# Altium integrated library Silicon Labs Energy Micro EFM32.IntLib: 240 symbols (part 8 of 34)
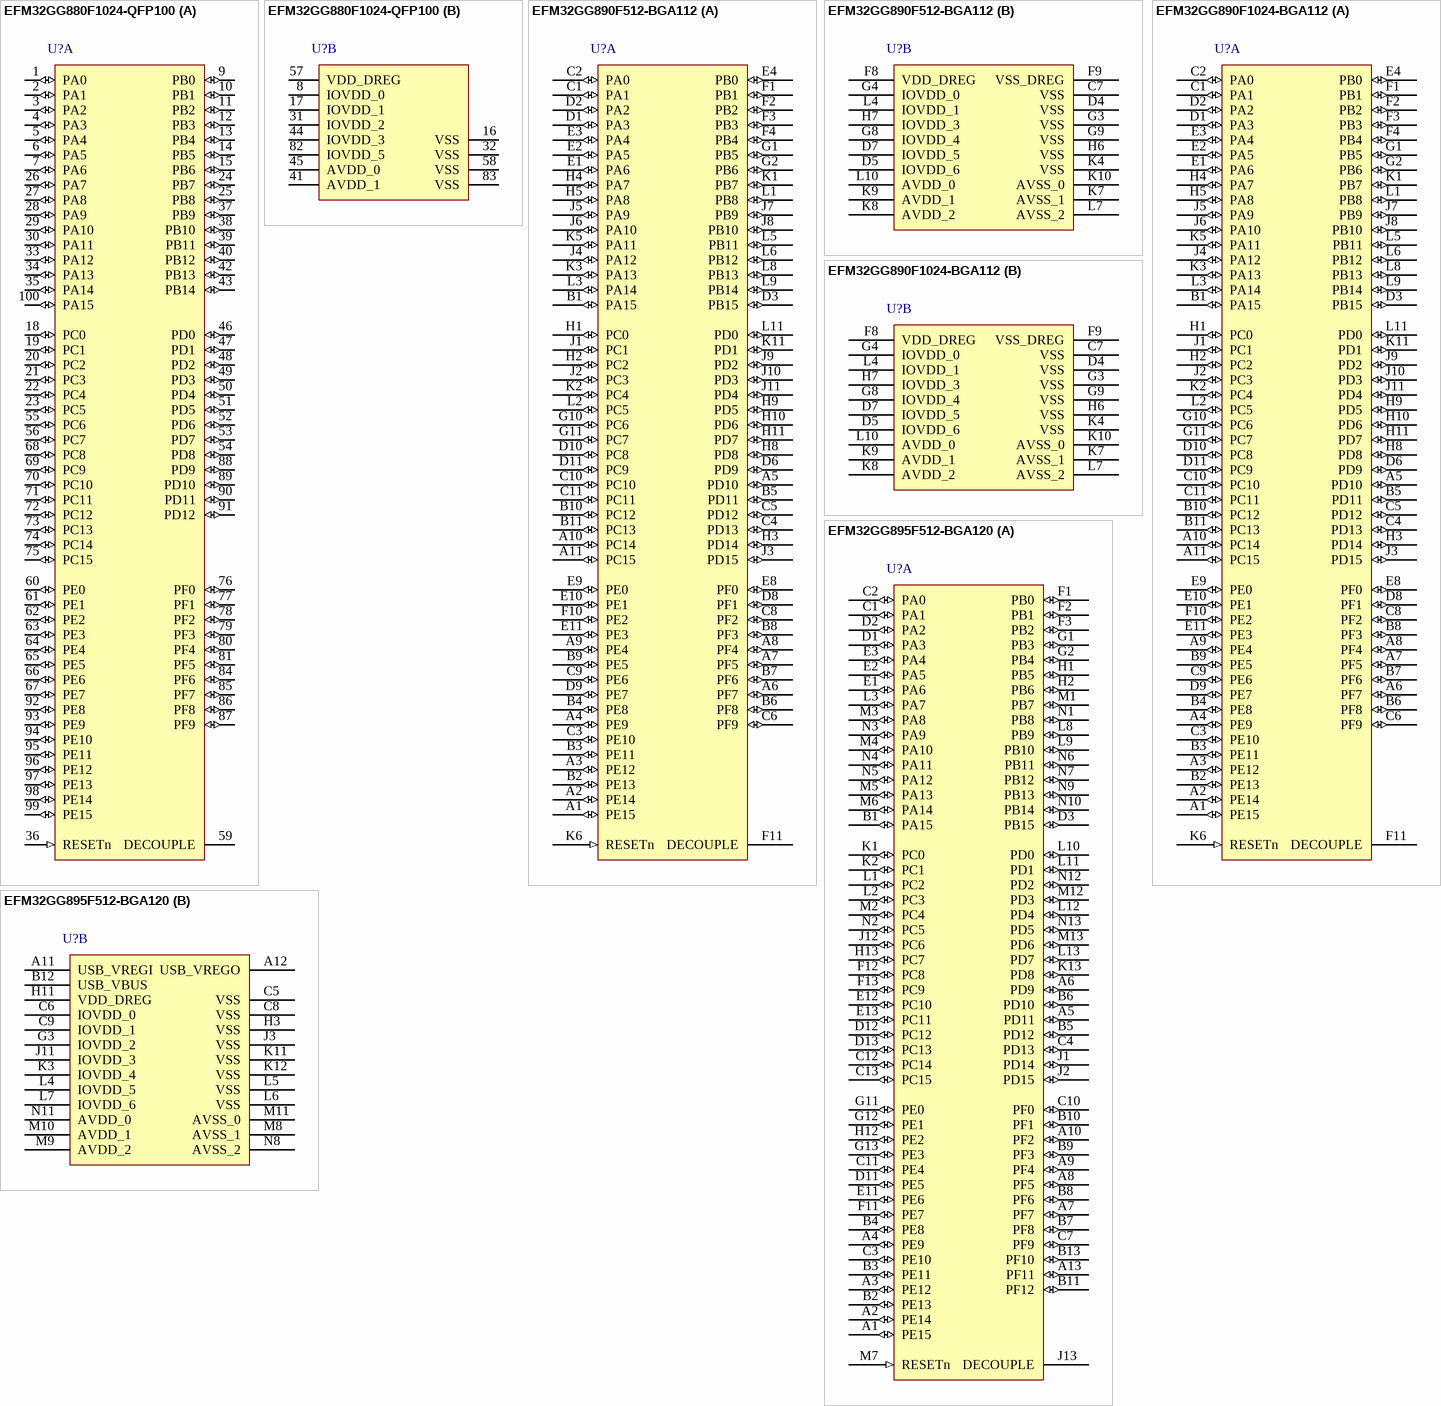
[diagram p45: symbols EFM32GG880F1024-QFP100 to EFM32GG895F512-BGA120]

## EFM32GG890F512-BGA112
designator U?
EFM32 Giant Gecko, M3 ARM Cortex CPU, 512 KB Flash, 128 KB RAM, 1.85 - 3.8 V Supply, 48 MHz Max Speed, -40 to 85 degC, 112-Pin BGA, RoHS Compliant; Generic Part Number: EFM32GG890; PartNumber: EFM32GG890F512-BGA112; Flash (KB): 512; GPIO: 90; LCD: 8x36; LESENSE: Y; Max Speed (MHz): 48; OPAMPS: 3; RAM (KB): 128; DatasheetVersion: Rev 1.00; PackageVersion: Rev. 97SPP01315A_X03_06Jun11; PackageReference: BGA112; PackageDescription: 112-Pin Ball Grid Array, Body 10 x 10 mm, Pitch 0.8 mm; Supplier 1: Digi-Key; Supplier Part Number 1: EFM32GG890F512-ND; Supplier 2: Mouser; Supplier Part Number 2: 904-EFM32GG890F512; ARM Cortex CPU: M3; Subcategory: EFM32 Giant Gecko; Supply Voltage (V): 1.85 - 3.8; Mounting Technology: Surface Mount; ComponentLink1Description: Manufacturer URL; ComponentLink1URL: http://www.energymicro.com/; ComponentLink2Description: Datasheet; ComponentLink2URL: http://cdn.energymicro.com/dl/devices/pdf/d0043_efm32gg890_datasheet.pdf; ComponentLink3Description: Package Specification; ComponentLink3URL: http://cdn.energymicro.com/dl/devices/pdf/d0007_efm32g290_datasheet.pdf
footprint ENMR-BGA112 (BGA, 112-Balls, Body 10x10mm, Pitch 0.8mm)
part A pins: A1 PE15 (io) "LCD_SEG11, EBI_AD07#0/1/2, TIM3_CC1#0, LEU0_RX#2", A2 PE14 (io) "LCD_SEG10, EBI_AD06#0/1/2, TIM3_CC0#0, LEU0_TX#2", A3 PE12 (io) "LCD_SEG8, EBI_AD04#0/1/2, TIM1_CC2#1, US0_RX#3, US0_CLK#0, I2C0_SDA#6, CMU_CLK1#2, LES_ALTEX6#0", A4 PE9 (io) "LCD_SEG5, EBI_AD01#0/1/2, PCNT2_S1IN#1", A5 PD10 (io) "LCD_SEG29, EBI_CS1#0/1/2", A6 PF7 (io) "LCD_SEG25, EBI_BL1#0/1/2, TIM0_CC1#2, U0_RX#0", A7 PF5 (io) "LCD_SEG3, EBI_REn#0/2, TIM0_CDTI2#2/5, PRS_CH2#1", A8 PF4 (io) "LCD_SEG2, EBI_WEn#0/2, TIM0_CDTI1#2/5, PRS_CH1#1", A9 PE4 (io) "LCD_COM0, EBI_A11#0/1/2, US0_CS#1", A10 PC14 (io) "DAC0_OUT1ALT#2/OPAMP_OUT1ALT, ACMP1_CH6, TIM0_CDTI1#1/3, TIM1_CC1#0, PCNT0_S1IN#0, US0_CS#3, U0_TX#3, LES_CH14#0", A11 PC15 (io) "DAC0_OUT1ALT#3/OPAMP_OUT1ALT, ACMP1_CH7, TIM0_CDTI2#1/3, TIM1_CC2#0, US0_CLK#3, U0_RX#3, LES_CH15#0, DBG_SWO#1", B1 PA15 (io) "LCD_SEG12, EBI_AD08#0/1/2, TIM3_CC2#0", B2 PE13 (io) "LCD_SEG9, EBI_AD05#0/1/2, US0_TX#3, US0_CS#0, I2C0_SCL#6, LES_ALTEX7#0, ACMP0_O#0, GPIO_EM4WU5", B3 PE11 (io) "LCD_SEG7, EBI_AD03#0/1/2, TIM1_CC1#1, US0_RX#0, LES_ALTEX5#0, BOOTLOADER_RX", B4 PE8 (io) "LCD_SEG4, EBI_AD00#0/1/2, PCNT2_S0IN#1, PRS_CH3#1", B5 PD11 (io) "LCD_SEG30, EBI_CS2#0/1/2", B6 PF8 (io) "LCD_SEG26, EBI_WEn#1, TIM0_CC2#2, ETM_TCLK#1", B7 PF6 (io) "LCD_SEG24, EBI_BL0#0/1/2, TIM0_CC0#2, U0_TX#0", B8 PF3 (io) "LCD_SEG1, EBI_ALE#0, TIM0_CDTI0#2/5, PRS_CH0#1, ETM_TD3#1", B9 PE5 (io) "LCD_COM1, EBI_A12#0/1/2, US0_CLK#1", B10 PC12 (io) "DAC0_OUT1ALT#0/OPAMP_OUT1ALT, ACMP1_CH4, U1_TX#0, CMU_CLK0#1, LES_CH12#0", B11 PC13 (io) "DAC0_OUT1ALT#1/OPAMP_OUT1ALT, ACMP1_CH5, TIM0_CDTI0#1/3, TIM1_CC0#0, TIM1_CC2#4, PCNT0_S0IN#0, U1_RX#0, LES_CH13#0", C1 PA1 (io) "LCD_SEG14, EBI_AD10#0/1/2, TIM0_CC1#0/1, I2C0_SCL#0, CMU_CLK1#0, PRS_CH1#0", C2 PA0 (io) "LCD_SEG13, EBI_AD09#0/1/2, TIM0_CC0#0/1/4, LEU0_RX#4, I2C0_SDA#0, PRS_CH0#0, GPIO_EM4WU0", C3 PE10 (io) "LCD_SEG6, EBI_AD02#0/1/2, TIM1_CC0#1, US0_TX#0, BOOTLOADER_TX", C4 PD13 (io) "ETM_TD1#1", C5 PD12 (io) "LCD_SEG31, EBI_CS3#0/1/2", C6 PF9 (io) "LCD_SEG27, EBI_REn#1, ETM_TD0#1", C8 PF2 (io) "LCD_SEG0, EBI_ARDY#0/1/2, TIM0_CC2#5, LEU0_TX#4, ACMP1_O#0, DBG_SWO#0, GPIO_EM4WU4", C9 PE6 (io) "LCD_COM2, EBI_A13#0/1/2, US0_RX#1", C10 PC10 (io) "ACMP1_CH2, EBI_A10#1/2, TIM2_CC2#2, US0_RX#2, LES_CH10#0", C11 PC11 (io) "ACMP1_CH3, EBI_ALE#1/2, US0_TX#2, LES_CH11#0", D1 PA3 (io) "LCD_SEG16, EBI_AD12#0/1/2, TIM0_CDTI0#0, U0_TX#2, LES_ALTEX2#0, ETM_TD1#3", D2 PA2 (io) "LCD_SEG15, EBI_AD11#0/1/2, TIM0_CC2#0/1, CMU_CLK0#0, ETM_TD0#3", D3 PB15 (io) "ETM_TD2#1", D6 PD9 (io) "LCD_SEG28, EBI_CS0#0/1/2", D8 PF1 (io) "TIM0_CC1#5, LETIM0_OUT1#2, US1_CS#2, LEU0_RX#3, I2C0_SCL#5, DBG_SWDIO#0/1/2/3, GPIO_EM4WU3", D9 PE7 (io) "LCD_COM3, EBI_A14#0/1/2, US0_TX#1", D10 PC8 (io) "ACMP1_CH0, EBI_A15#0/1/2, TIM2_CC0#2, US0_CS#2, LES_CH8#0", D11 PC9 (io) "ACMP1_CH1, EBI_A09#1/2, TIM2_CC1#2, US0_CLK#2, LES_CH9#0, GPIO_EM4WU2", E1 PA6 (io) "LCD_SEG19, EBI_AD15#0/1/2, LEU1_RX#1, ETM_TCLK#3, GPIO_EM4WU1", E2 PA5 (io) "LCD_SEG18, EBI_AD14#0/1/2, TIM0_CDTI2#0, LEU1_TX#1, LES_ALTEX4#0, ETM_TD3#3", E3 PA4 (io) "LCD_SEG17, EBI_AD13#0/1/2, TIM0_CDTI1#0, U0_RX#2, LES_ALTEX3#0, ETM_TD2#3", E4 PB0 (io) "LCD_SEG32, EBI_A16#0/1/2, TIM1_CC0#2", E8 PF0 (io) "TIM0_CC0#5, LETIM0_OUT0#2, US1_CLK#2, LEU0_TX#3, I2C0_SDA#5, DBG_SWCLK#0/1/2/3", E9 PE0 (io) "EBI_A07#0/1/2, TIM3_CC0#1, PCNT0_S0IN#1, U0_TX#1, I2C1_SDA#2", E10 PE1 (io) "EBI_A08#0/1/2, TIM3_CC1#1, PCNT0_S1IN#1, U0_RX#1, I2C1_SCL#2", E11 PE3 (io) "BU_STAT, EBI_A10#0, U1_RX#3, ACMP1_O#1", F1 PB1 (io) "LCD_SEG33, EBI_A17#0/1/2, TIM1_CC1#2", F2 PB2 (io) "LCD_SEG34, EBI_A18#0/1/2, TIM1_CC2#2", F3 PB3 (io) "LCD_SEG20/LCD_COM4, EBI_A19#0/1/2, PCNT1_S0IN#1, US2_TX#1", F4 PB4 (io) "LCD_SEG21/LCD_COM5, EBI_A20#0/1/2, PCNT1_S1IN#1, US2_RX#1", F10 PE2 (io) "BU_VOUT, EBI_A09#0, TIM3_CC2#1, U1_TX#3, ACMP0_O#1", F11 DECOUPLE "Decouple output for on-chip voltage regulator. An external capacitance of size CDECOUPLE is required at this pin.", G1 PB5 (io) "LCD_SEG22/LCD_COM6, EBI_A21#0/1/2, US2_CLK#1", G2 PB6 (io) "LCD_SEG23/LCD_COM7, EBI_A22#0/1/2, US2_CS#1", G10 PC6 (io) "ACMP0_CH6, EBI_A05#0/1/2, LEU1_TX#0, I2C0_SDA#2, LES_CH6#0, ETM_TCLK#2", G11 PC7 (io) "ACMP0_CH7, EBI_A06#0/1/2, LEU1_RX#0, I2C0_SCL#2, LES_CH7#0, ETM_TD0#2", H1 PC0 (io) "DAC0_OUT0ALT#0/OPAMP_OUT0ALT, ACMP0_CH0, EBI_A23#0/1/2, TIM0_CC1#4, PCNT0_S0IN#2, US0_TX#5, US1_TX#0, I2C0_SDA#4, LES_CH0#0, PRS_CH2#0", H2 PC2 (io) "DAC0_OUT0ALT#2/OPAMP_OUT0ALT, ACMP0_CH2, EBI_A25#0/1/2, TIM0_CDTI0#4, US2_TX#0, LES_CH2#0", H3 PD14 (io) "I2C0_SDA#3", H4 PA7 (io) "LCD_SEG35, EBI_CSTFT#0/1/2", H5 PA8 (io) "LCD_SEG36, EBI_DCLK#0/1/2, TIM2_CC0#0", H8 PD8 (io) "BU_VIN, CMU_CLK1#1", H9 PD5 (io) "ADC0_CH5, DAC0_OUT2#0/OPAMP_OUT2, LEU0_RX#0, ETM_TD3#0/2", H10 PD6 (io) "ADC0_CH6, DAC0_P1#0/OPAMP_P1, TIM1_CC0#4, LETIM0_OUT0#0, PCNT0_S0IN#3, US1_RX#2, I2C0_SDA#1, LES_ALTEX0#0, ACMP0_O#2, ETM_TD0#0", H11 PD7 (io) "ADC0_CH7, DAC0_N1#0/OPAMP_N1, TIM1_CC1#4, LETIM0_OUT1#0, PCNT0_S1IN#3, US1_TX#2, I2C0_SCL#1, CMU_CLK0#2, LES_ALTEX1#0, ACMP1_O#2, ETM_TCLK#0", J1 PC1 (io) "DAC0_OUT0ALT#1/OPAMP_OUT0ALT, ACMP0_CH1, EBI_A24#0/1/2, TIM0_CC2#4, PCNT0_S1IN#2, US0_RX#5, US1_RX#0, I2C0_SCL#4, LES_CH1#0, PRS_CH3#0", J2 PC3 (io) "DAC0_OUT0ALT#3/OPAMP_OUT0ALT, ACMP0_CH3, EBI_NANDREn#0/1/2, TIM0_CDTI1#4, US2_RX#0, LES_CH3#0", J3 PD15 (io) "I2C0_SCL#3", J4 PA12 (io) "LCD_BCAP_P, EBI_A00#0/1/2, TIM2_CC0#1", J5 PA9 (io) "LCD_SEG37, EBI_DTEN#0/1/2, TIM2_CC1#0", J6 PA10 (io) "LCD_SEG38, EBI_VSNC#0/1/2, TIM2_CC2#0", J7 PB9 (io) "EBI_A03#0/1/2, U1_TX#2", J8 PB10 (io) "EBI_A04#0/1/2, U1_RX#2", J9 PD2 (io) "ADC0_CH2, EBI_A27#0/1/2, TIM0_CC1#3, US1_CLK#1, DBG_SWO#3", J10 PD3 (io) "ADC0_CH3, DAC0_N2#0/OPAMP_N2, TIM0_CC2#3, US1_CS#1, ETM_TD1#0/2", J11 PD4 (io) "ADC0_CH4, DAC0_P2#0/OPAMP_P2, LEU0_TX#0, ETM_TD2#0/2", K1 PB7 (io) "LFXTAL_P, TIM1_CC0#3, US0_TX#4, US1_CLK#0", K2 PC4 (io) "DAC0_P0#0/OPAMP_P0, ACMP0_CH4, EBI_A26#0/1/2, TIM0_CDTI2#4, LETIM0_OUT0#3, PCNT1_S0IN#0, US2_CLK#0, I2C1_SDA#0, LES_CH4#0", K3 PA13 (io) "LCD_BCAP_N, EBI_A01#0/1/2, TIM2_CC1#1", K5 PA11 (io) "LCD_SEG39, EBI_HSNC#0/1/2", K6 RESETn (in) "Reset input. Active low, with internal pull-up.", K11 PD1 (io) "ADC0_CH1, DAC0_OUT1ALT#4/OPAMP_OUT1ALT, TIM0_CC0#3, PCNT2_S1IN#0, US1_RX#1, DBG_SWO#2", L1 PB8 (io) "LFXTAL_N, TIM1_CC1#3, US0_RX#4, US1_CS#0", L2 PC5 (io) "DAC0_N0#0/OPAMP_N0, ACMP0_CH5, EBI_NANDWEn#0/1/2, LETIM0_OUT1#3, PCNT1_S1IN#0, US2_CS#0, I2C1_SCL#0, LES_CH5#0", L3 PA14 (io) "LCD_BEXT, EBI_A02#0/1/2, TIM2_CC2#1", L5 PB11 (io) "DAC0_OUT0#0/OPAMP_OUT0, TIM1_CC2#3, LETIM0_OUT0#1, I2C1_SDA#1", L6 PB12 (io) "DAC0_OUT1#0/OPAMP_OUT1, LETIM0_OUT1#1, I2C1_SCL#1", L8 PB13 (io) "HFXTAL_P, US0_CLK#4/5, LEU0_TX#1", L9 PB14 (io) "HFXTAL_N, US0_CS#4/5, LEU0_RX#1", L11 PD0 (io) "ADC0_CH0, DAC0_OUT0ALT#4/OPAMP_OUT0ALT, DAC0_OUT2#1/OPAMP_OUT2, PCNT2_S0IN#0, US1_TX#1"
part B pins: C7 VSS (power) "Ground", D4 VSS (power) "Ground", D5 IOVDD_6 (power) "Digital IO power supply 6.", D7 IOVDD_5 (power) "Digital IO power supply 5.", F8 VDD_DREG (power) "Power supply for on-chip voltage regulator.", F9 VSS_DREG (power) "Ground for on-chip voltage regulator.", G3 VSS (power) "Ground", G4 IOVDD_0 (power) "Digital IO power supply 0.", G8 IOVDD_4 (power) "Digital IO power supply 4.", G9 VSS (power) "Ground", H6 VSS (power) "Ground", H7 IOVDD_3 (power) "Digital IO power supply 3.", K4 VSS (power) "Ground", K7 AVSS_1 (power) "Analog ground 1.", K8 AVDD_2 (power) "Analog power supply 2.", K9 AVDD_1 (power) "Analog power supply 1.", K10 AVSS_0 (power) "Analog ground 0.", L4 IOVDD_1 (power) "Digital IO power supply 1.", L7 AVSS_2 (power) "Analog ground 2.", L10 AVDD_0 (power) "Analog power supply 0."

## EFM32GG890F1024-BGA112
designator U?
EFM32 Giant Gecko, M3 ARM Cortex CPU, 1024 KB Flash, 128 KB RAM, 1.85 - 3.8 V Supply, 48 MHz Max Speed, -40 to 85 degC, 112-Pin BGA, RoHS Compliant; Generic Part Number: EFM32GG890; PartNumber: EFM32GG890F1024-BGA112; Flash (KB): 1024; GPIO: 90; LCD: 8x36; LESENSE: Y; Max Speed (MHz): 48; OPAMPS: 3; RAM (KB): 128; DatasheetVersion: Rev 1.00; PackageVersion: Rev. 97SPP01315A_X03_06Jun11; PackageReference: BGA112; PackageDescription: 112-Pin Ball Grid Array, Body 10 x 10 mm, Pitch 0.8 mm; Supplier 1: Digi-Key; Supplier Part Number 1: 914-1068-2-ND; Supplier 2: Digi-Key; Supplier Part Number 2: 914-1068-1-ND; Supplier 3: Digi-Key; Supplier Part Number 3: 914-1068-6-ND; Supplier 4: Mouser; Supplier Part Number 4: 904-EFM32GG890F1024; ARM Cortex CPU: M3; Subcategory: EFM32 Giant Gecko; Supply Voltage (V): 1.85 - 3.8; Mounting Technology: Surface Mount; ComponentLink1Description: Manufacturer URL; ComponentLink1URL: http://www.energymicro.com/; ComponentLink2Description: Datasheet; ComponentLink2URL: http://cdn.energymicro.com/dl/devices/pdf/d0043_efm32gg890_datasheet.pdf; ComponentLink3Description: Package Specification; ComponentLink3URL: http://cdn.energymicro.com/dl/devices/pdf/d0007_efm32g290_datasheet.pdf
footprint ENMR-BGA112 (BGA, 112-Balls, Body 10x10mm, Pitch 0.8mm)
part A pins: A1 PE15 (io) "LCD_SEG11, EBI_AD07#0/1/2, TIM3_CC1#0, LEU0_RX#2", A2 PE14 (io) "LCD_SEG10, EBI_AD06#0/1/2, TIM3_CC0#0, LEU0_TX#2", A3 PE12 (io) "LCD_SEG8, EBI_AD04#0/1/2, TIM1_CC2#1, US0_RX#3, US0_CLK#0, I2C0_SDA#6, CMU_CLK1#2, LES_ALTEX6#0", A4 PE9 (io) "LCD_SEG5, EBI_AD01#0/1/2, PCNT2_S1IN#1", A5 PD10 (io) "LCD_SEG29, EBI_CS1#0/1/2", A6 PF7 (io) "LCD_SEG25, EBI_BL1#0/1/2, TIM0_CC1#2, U0_RX#0", A7 PF5 (io) "LCD_SEG3, EBI_REn#0/2, TIM0_CDTI2#2/5, PRS_CH2#1", A8 PF4 (io) "LCD_SEG2, EBI_WEn#0/2, TIM0_CDTI1#2/5, PRS_CH1#1", A9 PE4 (io) "LCD_COM0, EBI_A11#0/1/2, US0_CS#1", A10 PC14 (io) "DAC0_OUT1ALT#2/OPAMP_OUT1ALT, ACMP1_CH6, TIM0_CDTI1#1/3, TIM1_CC1#0, PCNT0_S1IN#0, US0_CS#3, U0_TX#3, LES_CH14#0", A11 PC15 (io) "DAC0_OUT1ALT#3/OPAMP_OUT1ALT, ACMP1_CH7, TIM0_CDTI2#1/3, TIM1_CC2#0, US0_CLK#3, U0_RX#3, LES_CH15#0, DBG_SWO#1", B1 PA15 (io) "LCD_SEG12, EBI_AD08#0/1/2, TIM3_CC2#0", B2 PE13 (io) "LCD_SEG9, EBI_AD05#0/1/2, US0_TX#3, US0_CS#0, I2C0_SCL#6, LES_ALTEX7#0, ACMP0_O#0, GPIO_EM4WU5", B3 PE11 (io) "LCD_SEG7, EBI_AD03#0/1/2, TIM1_CC1#1, US0_RX#0, LES_ALTEX5#0, BOOTLOADER_RX", B4 PE8 (io) "LCD_SEG4, EBI_AD00#0/1/2, PCNT2_S0IN#1, PRS_CH3#1", B5 PD11 (io) "LCD_SEG30, EBI_CS2#0/1/2", B6 PF8 (io) "LCD_SEG26, EBI_WEn#1, TIM0_CC2#2, ETM_TCLK#1", B7 PF6 (io) "LCD_SEG24, EBI_BL0#0/1/2, TIM0_CC0#2, U0_TX#0", B8 PF3 (io) "LCD_SEG1, EBI_ALE#0, TIM0_CDTI0#2/5, PRS_CH0#1, ETM_TD3#1", B9 PE5 (io) "LCD_COM1, EBI_A12#0/1/2, US0_CLK#1", B10 PC12 (io) "DAC0_OUT1ALT#0/OPAMP_OUT1ALT, ACMP1_CH4, U1_TX#0, CMU_CLK0#1, LES_CH12#0", B11 PC13 (io) "DAC0_OUT1ALT#1/OPAMP_OUT1ALT, ACMP1_CH5, TIM0_CDTI0#1/3, TIM1_CC0#0, TIM1_CC2#4, PCNT0_S0IN#0, U1_RX#0, LES_CH13#0", C1 PA1 (io) "LCD_SEG14, EBI_AD10#0/1/2, TIM0_CC1#0/1, I2C0_SCL#0, CMU_CLK1#0, PRS_CH1#0", C2 PA0 (io) "LCD_SEG13, EBI_AD09#0/1/2, TIM0_CC0#0/1/4, LEU0_RX#4, I2C0_SDA#0, PRS_CH0#0, GPIO_EM4WU0", C3 PE10 (io) "LCD_SEG6, EBI_AD02#0/1/2, TIM1_CC0#1, US0_TX#0, BOOTLOADER_TX", C4 PD13 (io) "ETM_TD1#1", C5 PD12 (io) "LCD_SEG31, EBI_CS3#0/1/2", C6 PF9 (io) "LCD_SEG27, EBI_REn#1, ETM_TD0#1", C8 PF2 (io) "LCD_SEG0, EBI_ARDY#0/1/2, TIM0_CC2#5, LEU0_TX#4, ACMP1_O#0, DBG_SWO#0, GPIO_EM4WU4", C9 PE6 (io) "LCD_COM2, EBI_A13#0/1/2, US0_RX#1", C10 PC10 (io) "ACMP1_CH2, EBI_A10#1/2, TIM2_CC2#2, US0_RX#2, LES_CH10#0", C11 PC11 (io) "ACMP1_CH3, EBI_ALE#1/2, US0_TX#2, LES_CH11#0", D1 PA3 (io) "LCD_SEG16, EBI_AD12#0/1/2, TIM0_CDTI0#0, U0_TX#2, LES_ALTEX2#0, ETM_TD1#3", D2 PA2 (io) "LCD_SEG15, EBI_AD11#0/1/2, TIM0_CC2#0/1, CMU_CLK0#0, ETM_TD0#3", D3 PB15 (io) "ETM_TD2#1", D6 PD9 (io) "LCD_SEG28, EBI_CS0#0/1/2", D8 PF1 (io) "TIM0_CC1#5, LETIM0_OUT1#2, US1_CS#2, LEU0_RX#3, I2C0_SCL#5, DBG_SWDIO#0/1/2/3, GPIO_EM4WU3", D9 PE7 (io) "LCD_COM3, EBI_A14#0/1/2, US0_TX#1", D10 PC8 (io) "ACMP1_CH0, EBI_A15#0/1/2, TIM2_CC0#2, US0_CS#2, LES_CH8#0", D11 PC9 (io) "ACMP1_CH1, EBI_A09#1/2, TIM2_CC1#2, US0_CLK#2, LES_CH9#0, GPIO_EM4WU2", E1 PA6 (io) "LCD_SEG19, EBI_AD15#0/1/2, LEU1_RX#1, ETM_TCLK#3, GPIO_EM4WU1", E2 PA5 (io) "LCD_SEG18, EBI_AD14#0/1/2, TIM0_CDTI2#0, LEU1_TX#1, LES_ALTEX4#0, ETM_TD3#3", E3 PA4 (io) "LCD_SEG17, EBI_AD13#0/1/2, TIM0_CDTI1#0, U0_RX#2, LES_ALTEX3#0, ETM_TD2#3", E4 PB0 (io) "LCD_SEG32, EBI_A16#0/1/2, TIM1_CC0#2", E8 PF0 (io) "TIM0_CC0#5, LETIM0_OUT0#2, US1_CLK#2, LEU0_TX#3, I2C0_SDA#5, DBG_SWCLK#0/1/2/3", E9 PE0 (io) "EBI_A07#0/1/2, TIM3_CC0#1, PCNT0_S0IN#1, U0_TX#1, I2C1_SDA#2", E10 PE1 (io) "EBI_A08#0/1/2, TIM3_CC1#1, PCNT0_S1IN#1, U0_RX#1, I2C1_SCL#2", E11 PE3 (io) "BU_STAT, EBI_A10#0, U1_RX#3, ACMP1_O#1", F1 PB1 (io) "LCD_SEG33, EBI_A17#0/1/2, TIM1_CC1#2", F2 PB2 (io) "LCD_SEG34, EBI_A18#0/1/2, TIM1_CC2#2", F3 PB3 (io) "LCD_SEG20/LCD_COM4, EBI_A19#0/1/2, PCNT1_S0IN#1, US2_TX#1", F4 PB4 (io) "LCD_SEG21/LCD_COM5, EBI_A20#0/1/2, PCNT1_S1IN#1, US2_RX#1", F10 PE2 (io) "BU_VOUT, EBI_A09#0, TIM3_CC2#1, U1_TX#3, ACMP0_O#1", F11 DECOUPLE "Decouple output for on-chip voltage regulator. An external capacitance of size CDECOUPLE is required at this pin.", G1 PB5 (io) "LCD_SEG22/LCD_COM6, EBI_A21#0/1/2, US2_CLK#1", G2 PB6 (io) "LCD_SEG23/LCD_COM7, EBI_A22#0/1/2, US2_CS#1", G10 PC6 (io) "ACMP0_CH6, EBI_A05#0/1/2, LEU1_TX#0, I2C0_SDA#2, LES_CH6#0, ETM_TCLK#2", G11 PC7 (io) "ACMP0_CH7, EBI_A06#0/1/2, LEU1_RX#0, I2C0_SCL#2, LES_CH7#0, ETM_TD0#2", H1 PC0 (io) "DAC0_OUT0ALT#0/OPAMP_OUT0ALT, ACMP0_CH0, EBI_A23#0/1/2, TIM0_CC1#4, PCNT0_S0IN#2, US0_TX#5, US1_TX#0, I2C0_SDA#4, LES_CH0#0, PRS_CH2#0", H2 PC2 (io) "DAC0_OUT0ALT#2/OPAMP_OUT0ALT, ACMP0_CH2, EBI_A25#0/1/2, TIM0_CDTI0#4, US2_TX#0, LES_CH2#0", H3 PD14 (io) "I2C0_SDA#3", H4 PA7 (io) "LCD_SEG35, EBI_CSTFT#0/1/2", H5 PA8 (io) "LCD_SEG36, EBI_DCLK#0/1/2, TIM2_CC0#0", H8 PD8 (io) "BU_VIN, CMU_CLK1#1", H9 PD5 (io) "ADC0_CH5, DAC0_OUT2#0/OPAMP_OUT2, LEU0_RX#0, ETM_TD3#0/2", H10 PD6 (io) "ADC0_CH6, DAC0_P1#0/OPAMP_P1, TIM1_CC0#4, LETIM0_OUT0#0, PCNT0_S0IN#3, US1_RX#2, I2C0_SDA#1, LES_ALTEX0#0, ACMP0_O#2, ETM_TD0#0", H11 PD7 (io) "ADC0_CH7, DAC0_N1#0/OPAMP_N1, TIM1_CC1#4, LETIM0_OUT1#0, PCNT0_S1IN#3, US1_TX#2, I2C0_SCL#1, CMU_CLK0#2, LES_ALTEX1#0, ACMP1_O#2, ETM_TCLK#0", J1 PC1 (io) "DAC0_OUT0ALT#1/OPAMP_OUT0ALT, ACMP0_CH1, EBI_A24#0/1/2, TIM0_CC2#4, PCNT0_S1IN#2, US0_RX#5, US1_RX#0, I2C0_SCL#4, LES_CH1#0, PRS_CH3#0", J2 PC3 (io) "DAC0_OUT0ALT#3/OPAMP_OUT0ALT, ACMP0_CH3, EBI_NANDREn#0/1/2, TIM0_CDTI1#4, US2_RX#0, LES_CH3#0", J3 PD15 (io) "I2C0_SCL#3", J4 PA12 (io) "LCD_BCAP_P, EBI_A00#0/1/2, TIM2_CC0#1", J5 PA9 (io) "LCD_SEG37, EBI_DTEN#0/1/2, TIM2_CC1#0", J6 PA10 (io) "LCD_SEG38, EBI_VSNC#0/1/2, TIM2_CC2#0", J7 PB9 (io) "EBI_A03#0/1/2, U1_TX#2", J8 PB10 (io) "EBI_A04#0/1/2, U1_RX#2", J9 PD2 (io) "ADC0_CH2, EBI_A27#0/1/2, TIM0_CC1#3, US1_CLK#1, DBG_SWO#3", J10 PD3 (io) "ADC0_CH3, DAC0_N2#0/OPAMP_N2, TIM0_CC2#3, US1_CS#1, ETM_TD1#0/2", J11 PD4 (io) "ADC0_CH4, DAC0_P2#0/OPAMP_P2, LEU0_TX#0, ETM_TD2#0/2", K1 PB7 (io) "LFXTAL_P, TIM1_CC0#3, US0_TX#4, US1_CLK#0", K2 PC4 (io) "DAC0_P0#0/OPAMP_P0, ACMP0_CH4, EBI_A26#0/1/2, TIM0_CDTI2#4, LETIM0_OUT0#3, PCNT1_S0IN#0, US2_CLK#0, I2C1_SDA#0, LES_CH4#0", K3 PA13 (io) "LCD_BCAP_N, EBI_A01#0/1/2, TIM2_CC1#1", K5 PA11 (io) "LCD_SEG39, EBI_HSNC#0/1/2", K6 RESETn (in) "Reset input. Active low, with internal pull-up.", K11 PD1 (io) "ADC0_CH1, DAC0_OUT1ALT#4/OPAMP_OUT1ALT, TIM0_CC0#3, PCNT2_S1IN#0, US1_RX#1, DBG_SWO#2", L1 PB8 (io) "LFXTAL_N, TIM1_CC1#3, US0_RX#4, US1_CS#0", L2 PC5 (io) "DAC0_N0#0/OPAMP_N0, ACMP0_CH5, EBI_NANDWEn#0/1/2, LETIM0_OUT1#3, PCNT1_S1IN#0, US2_CS#0, I2C1_SCL#0, LES_CH5#0", L3 PA14 (io) "LCD_BEXT, EBI_A02#0/1/2, TIM2_CC2#1", L5 PB11 (io) "DAC0_OUT0#0/OPAMP_OUT0, TIM1_CC2#3, LETIM0_OUT0#1, I2C1_SDA#1", L6 PB12 (io) "DAC0_OUT1#0/OPAMP_OUT1, LETIM0_OUT1#1, I2C1_SCL#1", L8 PB13 (io) "HFXTAL_P, US0_CLK#4/5, LEU0_TX#1", L9 PB14 (io) "HFXTAL_N, US0_CS#4/5, LEU0_RX#1", L11 PD0 (io) "ADC0_CH0, DAC0_OUT0ALT#4/OPAMP_OUT0ALT, DAC0_OUT2#1/OPAMP_OUT2, PCNT2_S0IN#0, US1_TX#1"
part B pins: C7 VSS (power) "Ground", D4 VSS (power) "Ground", D5 IOVDD_6 (power) "Digital IO power supply 6.", D7 IOVDD_5 (power) "Digital IO power supply 5.", F8 VDD_DREG (power) "Power supply for on-chip voltage regulator.", F9 VSS_DREG (power) "Ground for on-chip voltage regulator.", G3 VSS (power) "Ground", G4 IOVDD_0 (power) "Digital IO power supply 0.", G8 IOVDD_4 (power) "Digital IO power supply 4.", G9 VSS (power) "Ground", H6 VSS (power) "Ground", H7 IOVDD_3 (power) "Digital IO power supply 3.", K4 VSS (power) "Ground", K7 AVSS_1 (power) "Analog ground 1.", K8 AVDD_2 (power) "Analog power supply 2.", K9 AVDD_1 (power) "Analog power supply 1.", K10 AVSS_0 (power) "Analog ground 0.", L4 IOVDD_1 (power) "Digital IO power supply 1.", L7 AVSS_2 (power) "Analog ground 2.", L10 AVDD_0 (power) "Analog power supply 0."

## EFM32GG895F512-BGA120
designator U?
EFM32 Giant Gecko, M3 ARM Cortex CPU, 512 KB Flash, 128 KB RAM, 1.85 - 3.8 V Supply, 48 MHz Max Speed, -40 to 85 degC, 120-Pin BGA, RoHS Compliant; Generic Part Number: EFM32GG895; PartNumber: EFM32GG895F512-BGA120; Flash (KB): 512; GPIO: 93; LCD: 8x36; LESENSE: Y; Max Speed (MHz): 48; OPAMPS: 3; RAM (KB): 128; DatasheetVersion: Rev 1.00; PackageVersion: Rev. 97SPP01321A_XO1_06APR2011; PackageReference: BGA120; PackageDescription: 120-Pin Ball Grid Array, Body 7 x 7 mm, Pitch 0.50 mm; Supplier 1: Digi-Key; Supplier Part Number 1: EFM32GG895F512-ND; Supplier 2: Mouser; Supplier Part Number 2: 904-EFM32GG895F512; ARM Cortex CPU: M3; Subcategory: EFM32 Giant Gecko; Supply Voltage (V): 1.85 - 3.8; Mounting Technology: Surface Mount; ComponentLink1Description: Manufacturer URL; ComponentLink1URL: http://www.energymicro.com/; ComponentLink2Description: Datasheet; ComponentLink2URL: http://cdn.energymicro.com/dl/devices/pdf/d0079_efm32gg895_datasheet.pdf; ComponentLink3Description: Package Specification; ComponentLink3URL: http://cdn.energymicro.com/dl/devices/pdf/d0199_efm32wg895_datasheet.pdf
footprint ENMR-BGA120 (BGA, 120-Balls, Body 7x7mm, Pitch 0.5mm)
part A pins: A1 PE15 (io) "LCD_SEG11, EBI_AD07#0/1/2, TIM3_CC1#0, LEU0_RX#2", A2 PE14 (io) "LCD_SEG10, EBI_AD06#0/1/2, TIM3_CC0#0, LEU0_TX#2", A3 PE12 (io) "LCD_SEG8, EBI_AD04#0/1/2, TIM1_CC2#1, US0_RX#3, US0_CLK#0, I2C0_SDA#6, CMU_CLK1#2, LES_ALTEX6#0", A4 PE9 (io) "LCD_SEG5, EBI_AD01#0/1/2, PCNT2_S1IN#1", A5 PD11 (io) "LCD_SEG30, EBI_CS2#0/1/2", A6 PD9 (io) "LCD_SEG28, EBI_CS0#0/1/2", A7 PF7 (io) "LCD_SEG25, EBI_BL1#0/1/2, TIM0_CC1#2, U0_RX#0", A8 PF5 (io) "LCD_SEG3, EBI_REn#0/2, TIM0_CDTI2#2/5, PRS_CH2#1", A9 PF4 (io) "LCD_SEG2, EBI_WEn#0/2, TIM0_CDTI1#2/5, PRS_CH1#1", A10 PF2 (io) "LCD_SEG0, EBI_ARDY#0/1/2, TIM0_CC2#5, LEU0_TX#4, ACMP1_O#0, DBG_SWO#0, GPIO_EM4WU4", A13 PF11 (io) "U1_RX#1", B1 PA15 (io) "LCD_SEG12, EBI_AD08#0/1/2, TIM3_CC2#0", B2 PE13 (io) "LCD_SEG9, EBI_AD05#0/1/2, US0_TX#3, US0_CS#0, I2C0_SCL#6, LES_ALTEX7#0, ACMP0_O#0, GPIO_EM4WU5", B3 PE11 (io) "LCD_SEG7, EBI_AD03#0/1/2, TIM1_CC1#1, US0_RX#0, LES_ALTEX5#0, BOOTLOADER_RX", B4 PE8 (io) "LCD_SEG4, EBI_AD00#0/1/2, PCNT2_S0IN#1, PRS_CH3#1", B5 PD12 (io) "LCD_SEG31, EBI_CS3#0/1/2", B6 PD10 (io) "LCD_SEG29, EBI_CS1#0/1/2", B7 PF8 (io) "LCD_SEG26, EBI_WEn#1, TIM0_CC2#2, ETM_TCLK#1", B8 PF6 (io) "LCD_SEG24, EBI_BL0#0/1/2, TIM0_CC0#2, U0_TX#0", B9 PF3 (io) "LCD_SEG1, EBI_ALE#0, TIM0_CDTI0#2/5, PRS_CH0#1, ETM_TD3#1", B10 PF1 (io) "TIM0_CC1#5, LETIM0_OUT1#2, US1_CS#2, LEU0_RX#3, I2C0_SCL#5, DBG_SWDIO#0/1/2/3, GPIO_EM4WU3", B11 PF12 (io), B13 PF10 (io) "U1_TX#1", C1 PA1 (io) "LCD_SEG14, EBI_AD10#0/1/2, TIM0_CC1#0/1, I2C0_SCL#0, CMU_CLK1#0, PRS_CH1#0", C2 PA0 (io) "LCD_SEG13, EBI_AD09#0/1/2, TIM0_CC0#0/1/4, LEU0_RX#4, I2C0_SDA#0, PRS_CH0#0, GPIO_EM4WU0", C3 PE10 (io) "LCD_SEG6, EBI_AD02#0/1/2, TIM1_CC0#1, US0_TX#0, BOOTLOADER_TX", C4 PD13 (io) "ETM_TD1#1", C7 PF9 (io) "LCD_SEG27, EBI_REn#1, ETM_TD0#1", C10 PF0 (io) "TIM0_CC0#5, LETIM0_OUT0#2, US1_CLK#2, LEU0_TX#3, I2C0_SDA#5, DBG_SWCLK#0/1/2/3", C11 PE4 (io) "LCD_COM0, EBI_A11#0/1/2, US0_CS#1", C12 PC14 (io) "DAC0_OUT1ALT#2/OPAMP_OUT1ALT, ACMP1_CH6, TIM0_CDTI1#1/3, TIM1_CC1#0, PCNT0_S1IN#0, US0_CS#3, U0_TX#3, LES_CH14#0", C13 PC15 (io) "DAC0_OUT1ALT#3/OPAMP_OUT1ALT, ACMP1_CH7, TIM0_CDTI2#1/3, TIM1_CC2#0, US0_CLK#3, U0_RX#3, LES_CH15#0, DBG_SWO#1", D1 PA3 (io) "LCD_SEG16, EBI_AD12#0/1/2, TIM0_CDTI0#0, U0_TX#2, LES_ALTEX2#0, ETM_TD1#3", D2 PA2 (io) "LCD_SEG15, EBI_AD11#0/1/2, TIM0_CC2#0/1, CMU_CLK0#0, ETM_TD0#3", D3 PB15 (io) "ETM_TD2#1", D11 PE5 (io) "LCD_COM1, EBI_A12#0/1/2, US0_CLK#1", D12 PC12 (io) "DAC0_OUT1ALT#0/OPAMP_OUT1ALT, ACMP1_CH4, U1_TX#0, CMU_CLK0#1, LES_CH12#0", D13 PC13 (io) "DAC0_OUT1ALT#1/OPAMP_OUT1ALT, ACMP1_CH5, TIM0_CDTI0#1/3, TIM1_CC0#0, TIM1_CC2#4, PCNT0_S0IN#0, U1_RX#0, LES_CH13#0", E1 PA6 (io) "LCD_SEG19, EBI_AD15#0/1/2, LEU1_RX#1, ETM_TCLK#3, GPIO_EM4WU1", E2 PA5 (io) "LCD_SEG18, EBI_AD14#0/1/2, TIM0_CDTI2#0, LEU1_TX#1, LES_ALTEX4#0, ETM_TD3#3", E3 PA4 (io) "LCD_SEG17, EBI_AD13#0/1/2, TIM0_CDTI1#0, U0_RX#2, LES_ALTEX3#0, ETM_TD2#3", E11 PE6 (io) "LCD_COM2, EBI_A13#0/1/2, US0_RX#1", E12 PC10 (io) "ACMP1_CH2, EBI_A10#1/2, TIM2_CC2#2, US0_RX#2, LES_CH10#0", E13 PC11 (io) "ACMP1_CH3, EBI_ALE#1/2, US0_TX#2, LES_CH11#0", F1 PB0 (io) "LCD_SEG32, EBI_A16#0/1/2, TIM1_CC0#2", F2 PB1 (io) "LCD_SEG33, EBI_A17#0/1/2, TIM1_CC1#2", F3 PB2 (io) "LCD_SEG34, EBI_A18#0/1/2, TIM1_CC2#2", F11 PE7 (io) "LCD_COM3, EBI_A14#0/1/2, US0_TX#1", F12 PC8 (io) "ACMP1_CH0, EBI_A15#0/1/2, TIM2_CC0#2, US0_CS#2, LES_CH8#0", F13 PC9 (io) "ACMP1_CH1, EBI_A09#1/2, TIM2_CC1#2, US0_CLK#2, LES_CH9#0, GPIO_EM4WU2", G1 PB3 (io) "LCD_SEG20/LCD_COM4, EBI_A19#0/1/2, PCNT1_S0IN#1, US2_TX#1", G2 PB4 (io) "LCD_SEG21/LCD_COM5, EBI_A20#0/1/2, PCNT1_S1IN#1, US2_RX#1", G11 PE0 (io) "EBI_A07#0/1/2, TIM3_CC0#1, PCNT0_S0IN#1, U0_TX#1, I2C1_SDA#2", G12 PE1 (io) "EBI_A08#0/1/2, TIM3_CC1#1, PCNT0_S1IN#1, U0_RX#1, I2C1_SCL#2", G13 PE3 (io) "BU_STAT, EBI_A10#0, U1_RX#3, ACMP1_O#1", H1 PB5 (io) "LCD_SEG22/LCD_COM6, EBI_A21#0/1/2, US2_CLK#1", H2 PB6 (io) "LCD_SEG23/LCD_COM7, EBI_A22#0/1/2, US2_CS#1", H12 PE2 (io) "BU_VOUT, EBI_A09#0, TIM3_CC2#1, U1_TX#3, ACMP0_O#1", H13 PC7 (io) "ACMP0_CH7, EBI_A06#0/1/2, LEU1_RX#0, I2C0_SCL#2, LES_CH7#0, ETM_TD0#2", J1 PD14 (io) "I2C0_SDA#3", J2 PD15 (io) "I2C0_SCL#3", J12 PC6 (io) "ACMP0_CH6, EBI_A05#0/1/2, LEU1_TX#0, I2C0_SDA#2, LES_CH6#0, ETM_TCLK#2", J13 DECOUPLE "Decouple output for on-chip voltage regulator. An external capacitance of size CDECOUPLE is required at this pin.", K1 PC0 (io) "DAC0_OUT0ALT#0/OPAMP_OUT0ALT, ACMP0_CH0, EBI_A23#0/1/2, TIM0_CC1#4, PCNT0_S0IN#2, US0_TX#5, US1_TX#0, I2C0_SDA#4, LES_CH0#0, PRS_CH2#0", K2 PC1 (io) "DAC0_OUT0ALT#1/OPAMP_OUT0ALT, ACMP0_CH1, EBI_A24#0/1/2, TIM0_CC2#4, PCNT0_S1IN#2, US0_RX#5, US1_RX#0, I2C0_SCL#4, LES_CH1#0, PRS_CH3#0", K13 PD8 (io) "BU_VIN, CMU_CLK1#1", L1 PC2 (io) "DAC0_OUT0ALT#2/OPAMP_OUT0ALT, ACMP0_CH2, EBI_A25#0/1/2, TIM0_CDTI0#4, US2_TX#0, LES_CH2#0", L2 PC3 (io) "DAC0_OUT0ALT#3/OPAMP_OUT0ALT, ACMP0_CH3, EBI_NANDREn#0/1/2, TIM0_CDTI1#4, US2_RX#0, LES_CH3#0", L3 PA7 (io) "LCD_SEG35, EBI_CSTFT#0/1/2", L8 PB9 (io) "EBI_A03#0/1/2, U1_TX#2", L9 PB10 (io) "EBI_A04#0/1/2, U1_RX#2", L10 PD0 (io) "ADC0_CH0, DAC0_OUT0ALT#4/OPAMP_OUT0ALT, DAC0_OUT2#1/OPAMP_OUT2, PCNT2_S0IN#0, US1_TX#1", L11 PD1 (io) "ADC0_CH1, DAC0_OUT1ALT#4/OPAMP_OUT1ALT, TIM0_CC0#3, PCNT2_S1IN#0, US1_RX#1, DBG_SWO#2", L12 PD4 (io) "ADC0_CH4, DAC0_P2#0/OPAMP_P2, LEU0_TX#0, ETM_TD2#0/2", L13 PD7 (io) "ADC0_CH7, DAC0_N1#0/OPAMP_N1, TIM1_CC1#4, LETIM0_OUT1#0, PCNT0_S1IN#3, US1_TX#2, I2C0_SCL#1, CMU_CLK0#2, LES_ALTEX1#0, ACMP1_O#2, ETM_TCLK#0", M1 PB7 (io) "LFXTAL_P, TIM1_CC0#3, US0_TX#4, US1_CLK#0,", M2 PC4 (io) "DAC0_P0#0/OPAMP_P0, ACMP0_CH4, EBI_A26#0/1/2, TIM0_CDTI2#4, LETIM0_OUT0#3, PCNT1_S0IN#0, US2_CLK#0, I2C1_SDA#0, LES_CH4#0", M3 PA8 (io) "LCD_SEG36, EBI_DCLK#0/1/2, TIM2_CC0#0", M4 PA10 (io) "LCD_SEG38, EBI_VSNC#0/1/2, TIM2_CC2#0", M5 PA13 (io) "LCD_BCAP_N, EBI_A01#0/1/2, TIM2_CC1#1", M6 PA14 (io) "LCD_BEXT, EBI_A02#0/1/2, TIM2_CC2#1", M7 RESETn (in) "Reset input. Active low, with internal pull-up.", M12 PD3 (io) "ADC0_CH3, DAC0_N2#0/OPAMP_N2, TIM0_CC2#3, US1_CS#1, ETM_TD1#0/2", M13 PD6 (io) "ADC0_CH6, DAC0_P1#0/OPAMP_P1, TIM1_CC0#4, LETIM0_OUT0#0, PCNT0_S0IN#3, US1_RX#2, I2C0_SDA#1, LES_ALTEX0#0, ACMP0_O#2, ETM_TD0#0", N1 PB8 (io) "LFXTAL_N, TIM1_CC1#3, US0_RX#4, US1_CS#0", N2 PC5 (io) "DAC0_N0#0/OPAMP_N0, ACMP0_CH5, EBI_NANDWEn#0/1/2, LETIM0_OUT1#3, PCNT1_S1IN#0, US2_CS#0, I2C1_SCL#0, LES_CH5#0", N3 PA9 (io) "LCD_SEG37, EBI_DTEN#0/1/2, TIM2_CC1#0", N4 PA11 (io) "LCD_SEG39, EBI_HSNC#0/1/2", N5 PA12 (io) "LCD_BCAP_P, EBI_A00#0/1/2, TIM2_CC0#1", N6 PB11 (io) "DAC0_OUT0#0/OPAMP_OUT0, TIM1_CC2#3, LETIM0_OUT0#1, I2C1_SDA#1", N7 PB12 (io) "DAC0_OUT1#0/OPAMP_OUT1, LETIM0_OUT1#1, I2C1_SCL#1", N9 PB13 (io) "HFXTAL_P, US0_CLK#4/5, LEU0_TX#1,", N10 PB14 (io) "HFXTAL_N, US0_CS#4/5, LEU0_RX#1,", N12 PD2 (io) "ADC0_CH2, EBI_A27#0/1/2, TIM0_CC1#3, US1_CLK#1, DBG_SWO#3", N13 PD5 (io) "ADC0_CH5, DAC0_OUT2#0/OPAMP_OUT2, LEU0_RX#0, ETM_TD3#0/2"
part B pins: A11 USB_VREGI (power) "USB Input to internal 3.3 V regulator.", A12 USB_VREGO "USB Decoupling for internal 3.3 V USB regulator and regulator output.", B12 USB_VBUS (power) "USB 5.0 V VBUS input.", C5 VSS (power) "Ground", C6 IOVDD_0 (power) "Digital IO power supply 0.", C8 VSS (power) "Ground", C9 IOVDD_1 (power) "Digital IO power supply 1.", G3 IOVDD_2 (power) "Digital IO power supply 2.", H3 VSS (power) "Ground", H11 VDD_DREG (power) "Power supply for on-chip voltage regulator.", J3 VSS (power) "Ground", J11 IOVDD_3 (power) "Digital IO power supply 3.", K3 IOVDD_4 (power) "Digital IO power supply 4.", K11 VSS (power) "Ground", K12 VSS (power) "Ground", L4 IOVDD_5 (power) "Digital IO power supply 5.", L5 VSS (power) "Ground", L6 VSS (power) "Ground", L7 IOVDD_6 (power) "Digital IO power supply 6.", M8 AVSS_1 (power) "Analog ground 1.", M9 AVDD_2 (power) "Analog power supply 2.", M10 AVDD_1 (power) "Analog power supply 1.", M11 AVSS_0 (power) "Analog ground 0.", N8 AVSS_2 (power) "Analog ground 2.", N11 AVDD_0 (power) "Analog power supply 0."

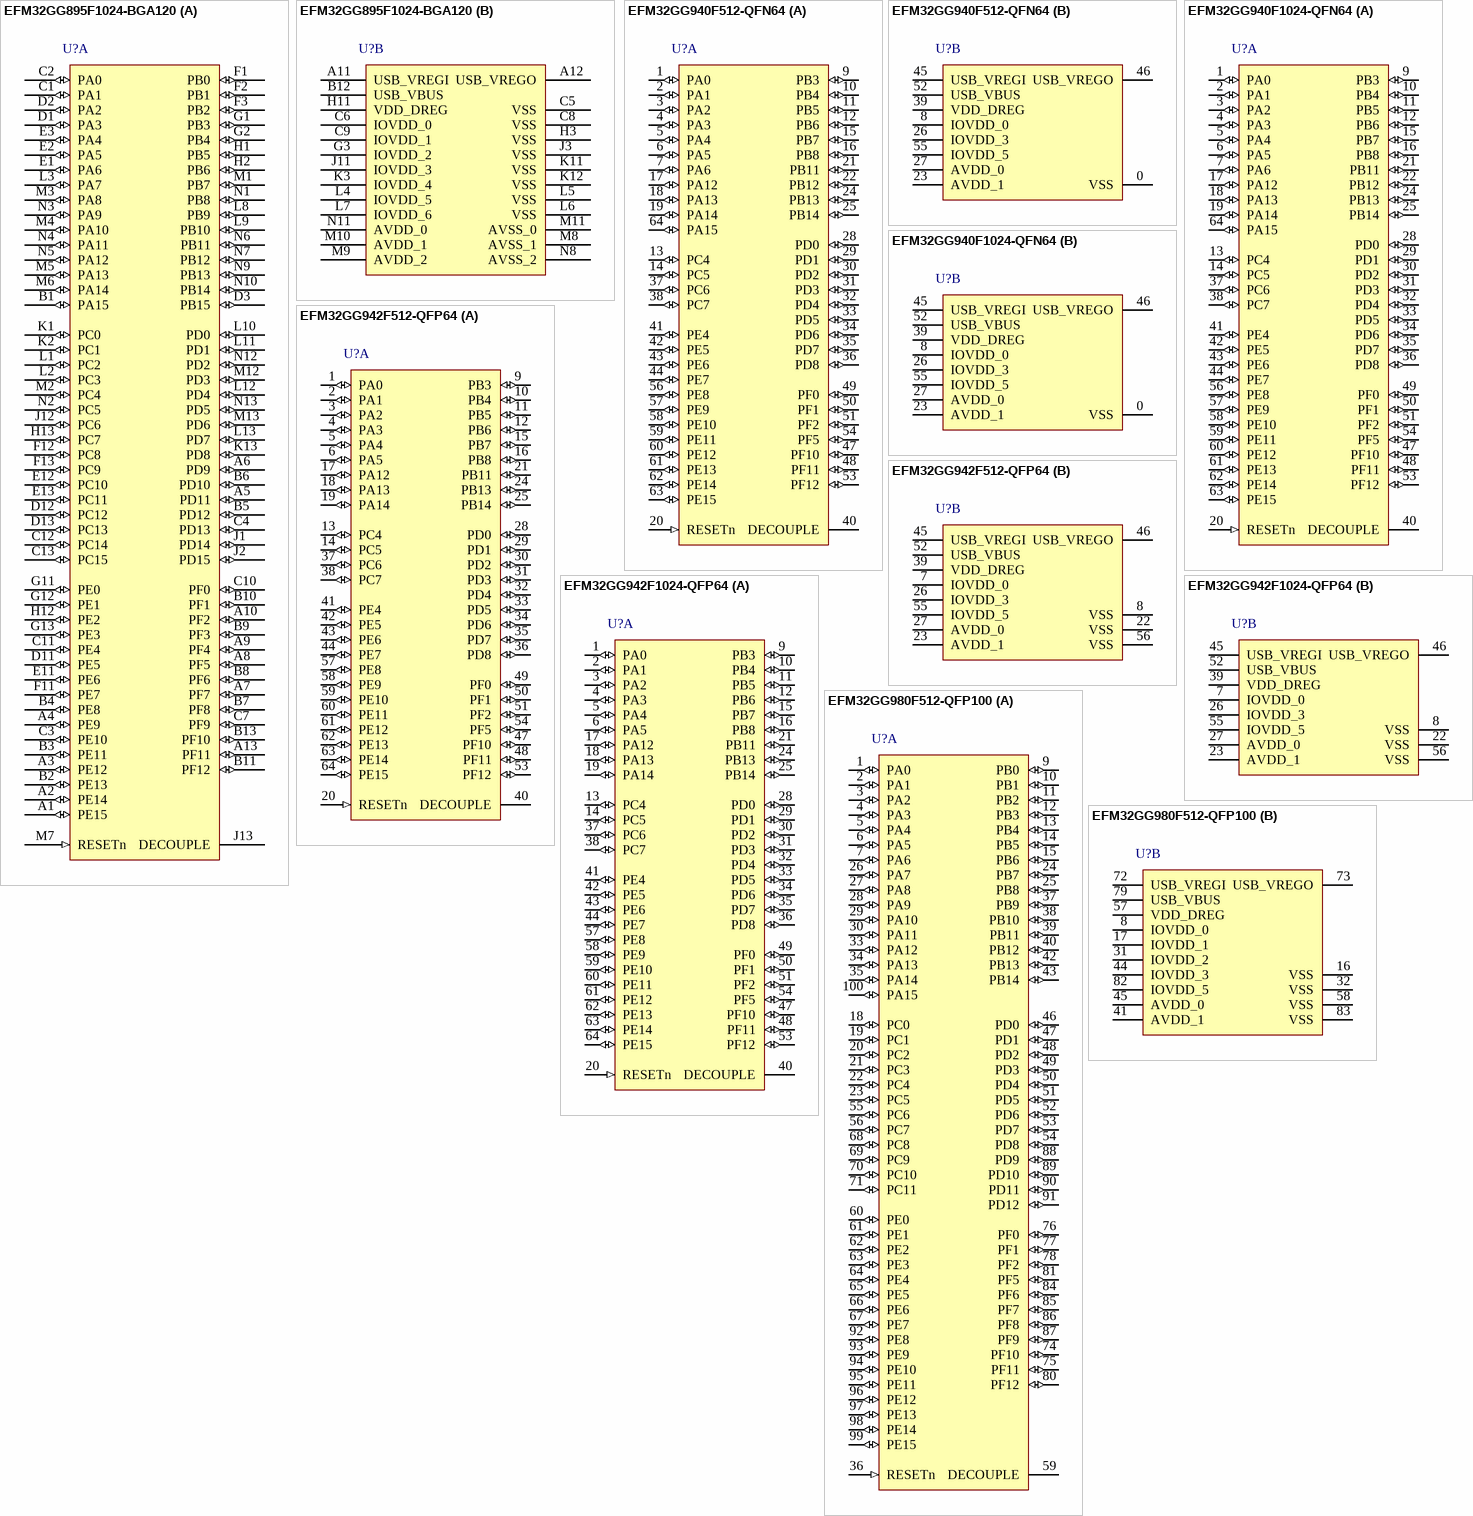
[diagram p10: symbols EFM32GG895F1024-BGA120 to EFM32GG980F512-QFP100]

## EFM32GG895F1024-BGA120
designator U?
EFM32 Giant Gecko, M3 ARM Cortex CPU, 1024 KB Flash, 128 KB RAM, 1.85 - 3.8 V Supply, 48 MHz Max Speed, -40 to 85 degC, 120-Pin BGA, RoHS Compliant; Generic Part Number: EFM32GG895; PartNumber: EFM32GG895F1024-BGA120; Flash (KB): 1024; GPIO: 93; LCD: 8x36; LESENSE: Y; Max Speed (MHz): 48; OPAMPS: 3; RAM (KB): 128; DatasheetVersion: Rev 1.00; PackageVersion: Rev. 97SPP01321A_XO1_06APR2011; PackageReference: BGA120; PackageDescription: 120-Pin Ball Grid Array, Body 7 x 7 mm, Pitch 0.50 mm; Supplier 1: Digi-Key; Supplier Part Number 1: 914-1069-2-ND; Supplier 2: Digi-Key; Supplier Part Number 2: 914-1069-1-ND; Supplier 3: Digi-Key; Supplier Part Number 3: 914-1069-6-ND; Supplier 4: Mouser; Supplier Part Number 4: 904-EFM32GG895F1024; ARM Cortex CPU: M3; Subcategory: EFM32 Giant Gecko; Supply Voltage (V): 1.85 - 3.8; Mounting Technology: Surface Mount; ComponentLink1Description: Manufacturer URL; ComponentLink1URL: http://www.energymicro.com/; ComponentLink2Description: Datasheet; ComponentLink2URL: http://cdn.energymicro.com/dl/devices/pdf/d0079_efm32gg895_datasheet.pdf; ComponentLink3Description: Package Specification; ComponentLink3URL: http://cdn.energymicro.com/dl/devices/pdf/d0199_efm32wg895_datasheet.pdf
footprint ENMR-BGA120 (BGA, 120-Balls, Body 7x7mm, Pitch 0.5mm)
part A pins: A1 PE15 (io) "LCD_SEG11, EBI_AD07#0/1/2, TIM3_CC1#0, LEU0_RX#2", A2 PE14 (io) "LCD_SEG10, EBI_AD06#0/1/2, TIM3_CC0#0, LEU0_TX#2", A3 PE12 (io) "LCD_SEG8, EBI_AD04#0/1/2, TIM1_CC2#1, US0_RX#3, US0_CLK#0, I2C0_SDA#6, CMU_CLK1#2, LES_ALTEX6#0", A4 PE9 (io) "LCD_SEG5, EBI_AD01#0/1/2, PCNT2_S1IN#1", A5 PD11 (io) "LCD_SEG30, EBI_CS2#0/1/2", A6 PD9 (io) "LCD_SEG28, EBI_CS0#0/1/2", A7 PF7 (io) "LCD_SEG25, EBI_BL1#0/1/2, TIM0_CC1#2, U0_RX#0", A8 PF5 (io) "LCD_SEG3, EBI_REn#0/2, TIM0_CDTI2#2/5, PRS_CH2#1", A9 PF4 (io) "LCD_SEG2, EBI_WEn#0/2, TIM0_CDTI1#2/5, PRS_CH1#1", A10 PF2 (io) "LCD_SEG0, EBI_ARDY#0/1/2, TIM0_CC2#5, LEU0_TX#4, ACMP1_O#0, DBG_SWO#0, GPIO_EM4WU4", A13 PF11 (io) "U1_RX#1", B1 PA15 (io) "LCD_SEG12, EBI_AD08#0/1/2, TIM3_CC2#0", B2 PE13 (io) "LCD_SEG9, EBI_AD05#0/1/2, US0_TX#3, US0_CS#0, I2C0_SCL#6, LES_ALTEX7#0, ACMP0_O#0, GPIO_EM4WU5", B3 PE11 (io) "LCD_SEG7, EBI_AD03#0/1/2, TIM1_CC1#1, US0_RX#0, LES_ALTEX5#0, BOOTLOADER_RX", B4 PE8 (io) "LCD_SEG4, EBI_AD00#0/1/2, PCNT2_S0IN#1, PRS_CH3#1", B5 PD12 (io) "LCD_SEG31, EBI_CS3#0/1/2", B6 PD10 (io) "LCD_SEG29, EBI_CS1#0/1/2", B7 PF8 (io) "LCD_SEG26, EBI_WEn#1, TIM0_CC2#2, ETM_TCLK#1", B8 PF6 (io) "LCD_SEG24, EBI_BL0#0/1/2, TIM0_CC0#2, U0_TX#0", B9 PF3 (io) "LCD_SEG1, EBI_ALE#0, TIM0_CDTI0#2/5, PRS_CH0#1, ETM_TD3#1", B10 PF1 (io) "TIM0_CC1#5, LETIM0_OUT1#2, US1_CS#2, LEU0_RX#3, I2C0_SCL#5, DBG_SWDIO#0/1/2/3, GPIO_EM4WU3", B11 PF12 (io), B13 PF10 (io) "U1_TX#1", C1 PA1 (io) "LCD_SEG14, EBI_AD10#0/1/2, TIM0_CC1#0/1, I2C0_SCL#0, CMU_CLK1#0, PRS_CH1#0", C2 PA0 (io) "LCD_SEG13, EBI_AD09#0/1/2, TIM0_CC0#0/1/4, LEU0_RX#4, I2C0_SDA#0, PRS_CH0#0, GPIO_EM4WU0", C3 PE10 (io) "LCD_SEG6, EBI_AD02#0/1/2, TIM1_CC0#1, US0_TX#0, BOOTLOADER_TX", C4 PD13 (io) "ETM_TD1#1", C7 PF9 (io) "LCD_SEG27, EBI_REn#1, ETM_TD0#1", C10 PF0 (io) "TIM0_CC0#5, LETIM0_OUT0#2, US1_CLK#2, LEU0_TX#3, I2C0_SDA#5, DBG_SWCLK#0/1/2/3", C11 PE4 (io) "LCD_COM0, EBI_A11#0/1/2, US0_CS#1", C12 PC14 (io) "DAC0_OUT1ALT#2/OPAMP_OUT1ALT, ACMP1_CH6, TIM0_CDTI1#1/3, TIM1_CC1#0, PCNT0_S1IN#0, US0_CS#3, U0_TX#3, LES_CH14#0", C13 PC15 (io) "DAC0_OUT1ALT#3/OPAMP_OUT1ALT, ACMP1_CH7, TIM0_CDTI2#1/3, TIM1_CC2#0, US0_CLK#3, U0_RX#3, LES_CH15#0, DBG_SWO#1", D1 PA3 (io) "LCD_SEG16, EBI_AD12#0/1/2, TIM0_CDTI0#0, U0_TX#2, LES_ALTEX2#0, ETM_TD1#3", D2 PA2 (io) "LCD_SEG15, EBI_AD11#0/1/2, TIM0_CC2#0/1, CMU_CLK0#0, ETM_TD0#3", D3 PB15 (io) "ETM_TD2#1", D11 PE5 (io) "LCD_COM1, EBI_A12#0/1/2, US0_CLK#1", D12 PC12 (io) "DAC0_OUT1ALT#0/OPAMP_OUT1ALT, ACMP1_CH4, U1_TX#0, CMU_CLK0#1, LES_CH12#0", D13 PC13 (io) "DAC0_OUT1ALT#1/OPAMP_OUT1ALT, ACMP1_CH5, TIM0_CDTI0#1/3, TIM1_CC0#0, TIM1_CC2#4, PCNT0_S0IN#0, U1_RX#0, LES_CH13#0", E1 PA6 (io) "LCD_SEG19, EBI_AD15#0/1/2, LEU1_RX#1, ETM_TCLK#3, GPIO_EM4WU1", E2 PA5 (io) "LCD_SEG18, EBI_AD14#0/1/2, TIM0_CDTI2#0, LEU1_TX#1, LES_ALTEX4#0, ETM_TD3#3", E3 PA4 (io) "LCD_SEG17, EBI_AD13#0/1/2, TIM0_CDTI1#0, U0_RX#2, LES_ALTEX3#0, ETM_TD2#3", E11 PE6 (io) "LCD_COM2, EBI_A13#0/1/2, US0_RX#1", E12 PC10 (io) "ACMP1_CH2, EBI_A10#1/2, TIM2_CC2#2, US0_RX#2, LES_CH10#0", E13 PC11 (io) "ACMP1_CH3, EBI_ALE#1/2, US0_TX#2, LES_CH11#0", F1 PB0 (io) "LCD_SEG32, EBI_A16#0/1/2, TIM1_CC0#2", F2 PB1 (io) "LCD_SEG33, EBI_A17#0/1/2, TIM1_CC1#2", F3 PB2 (io) "LCD_SEG34, EBI_A18#0/1/2, TIM1_CC2#2", F11 PE7 (io) "LCD_COM3, EBI_A14#0/1/2, US0_TX#1", F12 PC8 (io) "ACMP1_CH0, EBI_A15#0/1/2, TIM2_CC0#2, US0_CS#2, LES_CH8#0", F13 PC9 (io) "ACMP1_CH1, EBI_A09#1/2, TIM2_CC1#2, US0_CLK#2, LES_CH9#0, GPIO_EM4WU2", G1 PB3 (io) "LCD_SEG20/LCD_COM4, EBI_A19#0/1/2, PCNT1_S0IN#1, US2_TX#1", G2 PB4 (io) "LCD_SEG21/LCD_COM5, EBI_A20#0/1/2, PCNT1_S1IN#1, US2_RX#1", G11 PE0 (io) "EBI_A07#0/1/2, TIM3_CC0#1, PCNT0_S0IN#1, U0_TX#1, I2C1_SDA#2", G12 PE1 (io) "EBI_A08#0/1/2, TIM3_CC1#1, PCNT0_S1IN#1, U0_RX#1, I2C1_SCL#2", G13 PE3 (io) "BU_STAT, EBI_A10#0, U1_RX#3, ACMP1_O#1", H1 PB5 (io) "LCD_SEG22/LCD_COM6, EBI_A21#0/1/2, US2_CLK#1", H2 PB6 (io) "LCD_SEG23/LCD_COM7, EBI_A22#0/1/2, US2_CS#1", H12 PE2 (io) "BU_VOUT, EBI_A09#0, TIM3_CC2#1, U1_TX#3, ACMP0_O#1", H13 PC7 (io) "ACMP0_CH7, EBI_A06#0/1/2, LEU1_RX#0, I2C0_SCL#2, LES_CH7#0, ETM_TD0#2", J1 PD14 (io) "I2C0_SDA#3", J2 PD15 (io) "I2C0_SCL#3", J12 PC6 (io) "ACMP0_CH6, EBI_A05#0/1/2, LEU1_TX#0, I2C0_SDA#2, LES_CH6#0, ETM_TCLK#2", J13 DECOUPLE "Decouple output for on-chip voltage regulator. An external capacitance of size CDECOUPLE is required at this pin.", K1 PC0 (io) "DAC0_OUT0ALT#0/OPAMP_OUT0ALT, ACMP0_CH0, EBI_A23#0/1/2, TIM0_CC1#4, PCNT0_S0IN#2, US0_TX#5, US1_TX#0, I2C0_SDA#4, LES_CH0#0, PRS_CH2#0", K2 PC1 (io) "DAC0_OUT0ALT#1/OPAMP_OUT0ALT, ACMP0_CH1, EBI_A24#0/1/2, TIM0_CC2#4, PCNT0_S1IN#2, US0_RX#5, US1_RX#0, I2C0_SCL#4, LES_CH1#0, PRS_CH3#0", K13 PD8 (io) "BU_VIN, CMU_CLK1#1", L1 PC2 (io) "DAC0_OUT0ALT#2/OPAMP_OUT0ALT, ACMP0_CH2, EBI_A25#0/1/2, TIM0_CDTI0#4, US2_TX#0, LES_CH2#0", L2 PC3 (io) "DAC0_OUT0ALT#3/OPAMP_OUT0ALT, ACMP0_CH3, EBI_NANDREn#0/1/2, TIM0_CDTI1#4, US2_RX#0, LES_CH3#0", L3 PA7 (io) "LCD_SEG35, EBI_CSTFT#0/1/2", L8 PB9 (io) "EBI_A03#0/1/2, U1_TX#2", L9 PB10 (io) "EBI_A04#0/1/2, U1_RX#2", L10 PD0 (io) "ADC0_CH0, DAC0_OUT0ALT#4/OPAMP_OUT0ALT, DAC0_OUT2#1/OPAMP_OUT2, PCNT2_S0IN#0, US1_TX#1", L11 PD1 (io) "ADC0_CH1, DAC0_OUT1ALT#4/OPAMP_OUT1ALT, TIM0_CC0#3, PCNT2_S1IN#0, US1_RX#1, DBG_SWO#2", L12 PD4 (io) "ADC0_CH4, DAC0_P2#0/OPAMP_P2, LEU0_TX#0, ETM_TD2#0/2", L13 PD7 (io) "ADC0_CH7, DAC0_N1#0/OPAMP_N1, TIM1_CC1#4, LETIM0_OUT1#0, PCNT0_S1IN#3, US1_TX#2, I2C0_SCL#1, CMU_CLK0#2, LES_ALTEX1#0, ACMP1_O#2, ETM_TCLK#0", M1 PB7 (io) "LFXTAL_P, TIM1_CC0#3, US0_TX#4, US1_CLK#0,", M2 PC4 (io) "DAC0_P0#0/OPAMP_P0, ACMP0_CH4, EBI_A26#0/1/2, TIM0_CDTI2#4, LETIM0_OUT0#3, PCNT1_S0IN#0, US2_CLK#0, I2C1_SDA#0, LES_CH4#0", M3 PA8 (io) "LCD_SEG36, EBI_DCLK#0/1/2, TIM2_CC0#0", M4 PA10 (io) "LCD_SEG38, EBI_VSNC#0/1/2, TIM2_CC2#0", M5 PA13 (io) "LCD_BCAP_N, EBI_A01#0/1/2, TIM2_CC1#1", M6 PA14 (io) "LCD_BEXT, EBI_A02#0/1/2, TIM2_CC2#1", M7 RESETn (in) "Reset input. Active low, with internal pull-up.", M12 PD3 (io) "ADC0_CH3, DAC0_N2#0/OPAMP_N2, TIM0_CC2#3, US1_CS#1, ETM_TD1#0/2", M13 PD6 (io) "ADC0_CH6, DAC0_P1#0/OPAMP_P1, TIM1_CC0#4, LETIM0_OUT0#0, PCNT0_S0IN#3, US1_RX#2, I2C0_SDA#1, LES_ALTEX0#0, ACMP0_O#2, ETM_TD0#0", N1 PB8 (io) "LFXTAL_N, TIM1_CC1#3, US0_RX#4, US1_CS#0", N2 PC5 (io) "DAC0_N0#0/OPAMP_N0, ACMP0_CH5, EBI_NANDWEn#0/1/2, LETIM0_OUT1#3, PCNT1_S1IN#0, US2_CS#0, I2C1_SCL#0, LES_CH5#0", N3 PA9 (io) "LCD_SEG37, EBI_DTEN#0/1/2, TIM2_CC1#0", N4 PA11 (io) "LCD_SEG39, EBI_HSNC#0/1/2", N5 PA12 (io) "LCD_BCAP_P, EBI_A00#0/1/2, TIM2_CC0#1", N6 PB11 (io) "DAC0_OUT0#0/OPAMP_OUT0, TIM1_CC2#3, LETIM0_OUT0#1, I2C1_SDA#1", N7 PB12 (io) "DAC0_OUT1#0/OPAMP_OUT1, LETIM0_OUT1#1, I2C1_SCL#1", N9 PB13 (io) "HFXTAL_P, US0_CLK#4/5, LEU0_TX#1,", N10 PB14 (io) "HFXTAL_N, US0_CS#4/5, LEU0_RX#1,", N12 PD2 (io) "ADC0_CH2, EBI_A27#0/1/2, TIM0_CC1#3, US1_CLK#1, DBG_SWO#3", N13 PD5 (io) "ADC0_CH5, DAC0_OUT2#0/OPAMP_OUT2, LEU0_RX#0, ETM_TD3#0/2"
part B pins: A11 USB_VREGI (power) "USB Input to internal 3.3 V regulator.", A12 USB_VREGO "USB Decoupling for internal 3.3 V USB regulator and regulator output.", B12 USB_VBUS (power) "USB 5.0 V VBUS input.", C5 VSS (power) "Ground", C6 IOVDD_0 (power) "Digital IO power supply 0.", C8 VSS (power) "Ground", C9 IOVDD_1 (power) "Digital IO power supply 1.", G3 IOVDD_2 (power) "Digital IO power supply 2.", H3 VSS (power) "Ground", H11 VDD_DREG (power) "Power supply for on-chip voltage regulator.", J3 VSS (power) "Ground", J11 IOVDD_3 (power) "Digital IO power supply 3.", K3 IOVDD_4 (power) "Digital IO power supply 4.", K11 VSS (power) "Ground", K12 VSS (power) "Ground", L4 IOVDD_5 (power) "Digital IO power supply 5.", L5 VSS (power) "Ground", L6 VSS (power) "Ground", L7 IOVDD_6 (power) "Digital IO power supply 6.", M8 AVSS_1 (power) "Analog ground 1.", M9 AVDD_2 (power) "Analog power supply 2.", M10 AVDD_1 (power) "Analog power supply 1.", M11 AVSS_0 (power) "Analog ground 0.", N8 AVSS_2 (power) "Analog ground 2.", N11 AVDD_0 (power) "Analog power supply 0."

## EFM32GG940F512-QFN64
designator U?
EFM32 Giant Gecko, M3 ARM Cortex CPU, 512 KB Flash, 128 KB RAM, 1.85 - 3.8 V Supply, 48 MHz Max Speed, -40 to 85 degC, 64-Pin QFN, RoHS Compliant; Generic Part Number: EFM32GG940; PartNumber: EFM32GG940F512-QFN64; Flash (KB): 512; GPIO: 53; LCD: 8x18; LESENSE: Y; Max Speed (MHz): 48; OPAMPS: 3; RAM (KB): 128; DatasheetVersion: Rev 1.00; PackageVersion: Rev. 98SPP64048A_XO1_08MAR2011; PackageReference: QFN64; PackageDescription: 64-Pin Quad Flat No-Lead, Body 9 x 9 mm, Pitch 0.5 mm; Supplier 1: Digi-Key; Supplier Part Number 1: EFM32GG940F512-ND; Supplier 2: Mouser; Supplier Part Number 2: 904-EFM32GG940F512; ARM Cortex CPU: M3; Subcategory: EFM32 Giant Gecko; Supply Voltage (V): 1.85 - 3.8; USB: Y; Mounting Technology: Surface Mount; ComponentLink1Description: Manufacturer URL; ComponentLink1URL: http://www.energymicro.com/; ComponentLink2Description: Datasheet; ComponentLink2URL: http://cdn.energymicro.com/dl/devices/pdf/d0044_efm32gg940_datasheet.pdf; ComponentLink3Description: Package Specification; ComponentLink3URL: http://cdn.energymicro.com/dl/devices/pdf/d0005_efm32g230_datasheet.pdf
footprint ENMR-QFN64_N (QFN, 64-Leads, Body 9x9mm, Pitch 0.5mm, IPC Medium Density)
footprint ENMR-QFN64_L (QFN, 64-Leads, Body 9x9mm, Pitch 0.5mm, IPC High Density)
footprint ENMR-QFN64_M (QFN, 64-Leads, Body 9x9mm, Pitch 0.5mm, IPC Low Density)
part A pins: 1 PA0 (io) "LCD_SEG13, TIM0_CC0#0/1/4, LEU0_RX#4, I2C0_SDA#0, PRS_CH0#0, GPIO_EM4WU0", 2 PA1 (io) "LCD_SEG14, TIM0_CC1#0/1, I2C0_SCL#0, CMU_CLK1#0, PRS_CH1#0", 3 PA2 (io) "LCD_SEG15, TIM0_CC2#0/1, CMU_CLK0#0, ETM_TD0#3", 4 PA3 (io) "LCD_SEG16, TIM0_CDTI0#0, LES_ALTEX2#0, ETM_TD1#3", 5 PA4 (io) "LCD_SEG17, TIM0_CDTI1#0, LES_ALTEX3#0, ETM_TD2#3", 6 PA5 (io) "LCD_SEG18, TIM0_CDTI2#0, LEU1_TX#1, LES_ALTEX4#0, ETM_TD3#3", 7 PA6 (io) "LCD_SEG19, LEU1_RX#1, ETM_TCLK#3, GPIO_EM4WU1", 9 PB3 (io) "LCD_SEG20/LCD_COM4, PCNT1_S0IN#1, US2_TX#1", 10 PB4 (io) "LCD_SEG21/LCD_COM5, PCNT1_S1IN#1, US2_RX#1", 11 PB5 (io) "LCD_SEG22/LCD_COM6, US2_CLK#1", 12 PB6 (io) "LCD_SEG23/LCD_COM7, US2_CS#1", 13 PC4 (io) "DAC0_P0#0/OPAMP_P0, ACMP0_CH4, TIM0_CDTI2#4, LETIM0_OUT0#3, PCNT1_S0IN#0, US2_CLK#0, I2C1_SDA#0, LES_CH4#0", 14 PC5 (io) "DAC0_N0#0/OPAMP_N0, ACMP0_CH5, LETIM0_OUT1#3, PCNT1_S1IN#0, US2_CS#0, I2C1_SCL#0, LES_CH5#0", 15 PB7 (io) "LFXTAL_P, TIM1_CC0#3, US0_TX#4, US1_CLK#0", 16 PB8 (io) "LFXTAL_N, TIM1_CC1#3, US0_RX#4, US1_CS#0", 17 PA12 (io) "LCD_BCAP_P, TIM2_CC0#1", 18 PA13 (io) "LCD_BCAP_N, TIM2_CC1#1", 19 PA14 (io) "LCD_BEXT, TIM2_CC2#1", 20 RESETn (in) "Reset input. Active low, with internal pull-up.", 21 PB11 (io) "DAC0_OUT0#0/OPAMP_OUT0, TIM1_CC2#3, LETIM0_OUT0#1, I2C1_SDA#1", 22 PB12 (io) "DAC0_OUT1#0/OPAMP_OUT1, LETIM0_OUT1#1, I2C1_SCL#1", 24 PB13 (io) "HFXTAL_P, US0_CLK#4/5, LEU0_TX#1", 25 PB14 (io) "HFXTAL_N, US0_CS#4/5, LEU0_RX#1", 28 PD0 (io) "ADC0_CH0, DAC0_OUT0ALT#4/OPAMP_OUT0ALT, DAC0_OUT2#1/OPAMP_OUT2, PCNT2_S0IN#0, US1_TX#1", 29 PD1 (io) "ADC0_CH1, DAC0_OUT1ALT#4/OPAMP_OUT1ALT, TIM0_CC0#3, PCNT2_S1IN#0, US1_RX#1, DBG_SWO#2", 30 PD2 (io) "ADC0_CH2, TIM0_CC1#3, US1_CLK#1, USB_DMPU#0, DBG_SWO#3", 31 PD3 (io) "ADC0_CH3, DAC0_N2#0/OPAMP_N2, TIM0_CC2#3, US1_CS#1, ETM_TD1#0/2", 32 PD4 (io) "ADC0_CH4, DAC0_P2#0/OPAMP_P2, LEU0_TX#0, ETM_TD2#0/2", 33 PD5 (io) "ADC0_CH5, DAC0_OUT2#0/OPAMP_OUT2, LEU0_RX#0, ETM_TD3#0/2", 34 PD6 (io) "ADC0_CH6, DAC0_P1#0/OPAMP_P1, TIM1_CC0#4, LETIM0_OUT0#0, PCNT0_S0IN#3, US1_RX#2, I2C0_SDA#1, LES_ALTEX0#0, ACMP0_O#2, ETM_TD0#0", 35 PD7 (io) "ADC0_CH7, DAC0_N1#0/OPAMP_N1, TIM1_CC1#4, LETIM0_OUT1#0, PCNT0_S1IN#3, US1_TX#2, I2C0_SCL#1, CMU_CLK0#2, LES_ALTEX1#0, ACMP1_O#2, ETM_TCLK#0", 36 PD8 (io) "BU_VIN, CMU_CLK1#1", 37 PC6 (io) "ACMP0_CH6, LEU1_TX#0, I2C0_SDA#2, LES_CH6#0, ETM_TCLK#2", 38 PC7 (io) "ACMP0_CH7, LEU1_RX#0, I2C0_SCL#2, LES_CH7#0, ETM_TD0#2", 40 DECOUPLE "Decouple output for on-chip voltage regulator. An external capacitance of size CDECOUPLE is required at this pin.", 41 PE4 (io) "LCD_COM0, US0_CS#1", 42 PE5 (io) "LCD_COM1, US0_CLK#1", 43 PE6 (io) "LCD_COM2, US0_RX#1", 44 PE7 (io) "LCD_COM3, US0_TX#1", 47 PF10 (io) "USB_DM#0", 48 PF11 (io) "USB_DP#0", 49 PF0 (io) "TIM0_CC0#5, LETIM0_OUT0#2, US1_CLK#2, LEU0_TX#3, I2C0_SDA#5, DBG_SWCLK#0/1/2/3", 50 PF1 (io) "TIM0_CC1#5, LETIM0_OUT1#2, US1_CS#2, LEU0_RX#3, I2C0_SCL#5, DBG_SWDIO#0/1/2/3, GPIO_EM4WU3", 51 PF2 (io) "LCD_SEG0, TIM0_CC2#5, LEU0_TX#4, ACMP1_O#0, DBG_SWO#0, GPIO_EM4WU4", 53 PF12 (io) "USB_ID#0", 54 PF5 (io) "LCD_SEG3, TIM0_CDTI2#2/5, USB_VBUSEN#0, PRS_CH2#1", 56 PE8 (io) "LCD_SEG4, PCNT2_S0IN#1, PRS_CH3#1", 57 PE9 (io) "LCD_SEG5, PCNT2_S1IN#1", 58 PE10 (io) "LCD_SEG6, TIM1_CC0#1, US0_TX#0, BOOTLOADER_TX", 59 PE11 (io) "LCD_SEG7, TIM1_CC1#1, US0_RX#0, LES_ALTEX5#0, BOOTLOADER_RX", 60 PE12 (io) "LCD_SEG8, TIM1_CC2#1, US0_RX#3, US0_CLK#0, I2C0_SDA#6, CMU_CLK1#2, LES_ALTEX6#0", 61 PE13 (io) "LCD_SEG9, US0_TX#3, US0_CS#0, I2C0_SCL#6, LES_ALTEX7#0, ACMP0_O#0, GPIO_EM4WU5", 62 PE14 (io) "LCD_SEG10, TIM3_CC0#0, LEU0_TX#2", 63 PE15 (io) "LCD_SEG11, TIM3_CC1#0, LEU0_RX#2", 64 PA15 (io) "LCD_SEG12, TIM3_CC2#0"
part B pins: 0 VSS (power) "Ground", 8 IOVDD_0 (power) "Digital IO power supply 0.", 23 AVDD_1 (power) "Analog power supply 1 .", 26 IOVDD_3 (power) "Digital IO power supply 3.", 27 AVDD_0 (power) "Analog power supply 0.", 39 VDD_DREG (power) "Power supply for on-chip voltage regulator", 45 USB_VREGI (power) "USB Input to internal 3.3 V regulator.", 46 USB_VREGO "USB Decoupling for internal 3.3 V USB regulator and regulator output.", 52 USB_VBUS (power) "USB 5.0 V VBUS input.", 55 IOVDD_5 (power) "Digital IO power supply 5."

## EFM32GG940F1024-QFN64
designator U?
EFM32 Giant Gecko, M3 ARM Cortex CPU, 1024 KB Flash, 128 KB RAM, 1.85 - 3.8 V Supply, 48 MHz Max Speed, -40 to 85 degC, 64-Pin QFN, RoHS Compliant; Generic Part Number: EFM32GG940; PartNumber: EFM32GG940F1024-QFN64; Flash (KB): 1024; GPIO: 53; LCD: 8x18; LESENSE: Y; Max Speed (MHz): 48; OPAMPS: 3; RAM (KB): 128; DatasheetVersion: Rev 1.00; PackageVersion: Rev. 98SPP64048A_XO1_08MAR2011; PackageReference: QFN64; PackageDescription: 64-Pin Quad Flat No-Lead, Body 9 x 9 mm, Pitch 0.5 mm; Supplier 1: Digi-Key; Supplier Part Number 1: 914-1048-2-ND; Supplier 2: Digi-Key; Supplier Part Number 2: 914-1048-1-ND; Supplier 3: Digi-Key; Supplier Part Number 3: 914-1048-6-ND; Supplier 4: Mouser; Supplier Part Number 4: 904-EFM32GG940F1024; ARM Cortex CPU: M3; Subcategory: EFM32 Giant Gecko; Supply Voltage (V): 1.85 - 3.8; USB: Y; Mounting Technology: Surface Mount; ComponentLink1Description: Manufacturer URL; ComponentLink1URL: http://www.energymicro.com/; ComponentLink2Description: Datasheet; ComponentLink2URL: http://cdn.energymicro.com/dl/devices/pdf/d0044_efm32gg940_datasheet.pdf; ComponentLink3Description: Package Specification; ComponentLink3URL: http://cdn.energymicro.com/dl/devices/pdf/d0005_efm32g230_datasheet.pdf
footprint ENMR-QFN64_N (QFN, 64-Leads, Body 9x9mm, Pitch 0.5mm, IPC Medium Density)
footprint ENMR-QFN64_L (QFN, 64-Leads, Body 9x9mm, Pitch 0.5mm, IPC High Density)
footprint ENMR-QFN64_M (QFN, 64-Leads, Body 9x9mm, Pitch 0.5mm, IPC Low Density)
part A pins: 1 PA0 (io) "LCD_SEG13, TIM0_CC0#0/1/4, LEU0_RX#4, I2C0_SDA#0, PRS_CH0#0, GPIO_EM4WU0", 2 PA1 (io) "LCD_SEG14, TIM0_CC1#0/1, I2C0_SCL#0, CMU_CLK1#0, PRS_CH1#0", 3 PA2 (io) "LCD_SEG15, TIM0_CC2#0/1, CMU_CLK0#0, ETM_TD0#3", 4 PA3 (io) "LCD_SEG16, TIM0_CDTI0#0, LES_ALTEX2#0, ETM_TD1#3", 5 PA4 (io) "LCD_SEG17, TIM0_CDTI1#0, LES_ALTEX3#0, ETM_TD2#3", 6 PA5 (io) "LCD_SEG18, TIM0_CDTI2#0, LEU1_TX#1, LES_ALTEX4#0, ETM_TD3#3", 7 PA6 (io) "LCD_SEG19, LEU1_RX#1, ETM_TCLK#3, GPIO_EM4WU1", 9 PB3 (io) "LCD_SEG20/LCD_COM4, PCNT1_S0IN#1, US2_TX#1", 10 PB4 (io) "LCD_SEG21/LCD_COM5, PCNT1_S1IN#1, US2_RX#1", 11 PB5 (io) "LCD_SEG22/LCD_COM6, US2_CLK#1", 12 PB6 (io) "LCD_SEG23/LCD_COM7, US2_CS#1", 13 PC4 (io) "DAC0_P0#0/OPAMP_P0, ACMP0_CH4, TIM0_CDTI2#4, LETIM0_OUT0#3, PCNT1_S0IN#0, US2_CLK#0, I2C1_SDA#0, LES_CH4#0", 14 PC5 (io) "DAC0_N0#0/OPAMP_N0, ACMP0_CH5, LETIM0_OUT1#3, PCNT1_S1IN#0, US2_CS#0, I2C1_SCL#0, LES_CH5#0", 15 PB7 (io) "LFXTAL_P, TIM1_CC0#3, US0_TX#4, US1_CLK#0", 16 PB8 (io) "LFXTAL_N, TIM1_CC1#3, US0_RX#4, US1_CS#0", 17 PA12 (io) "LCD_BCAP_P, TIM2_CC0#1", 18 PA13 (io) "LCD_BCAP_N, TIM2_CC1#1", 19 PA14 (io) "LCD_BEXT, TIM2_CC2#1", 20 RESETn (in) "Reset input. Active low, with internal pull-up.", 21 PB11 (io) "DAC0_OUT0#0/OPAMP_OUT0, TIM1_CC2#3, LETIM0_OUT0#1, I2C1_SDA#1", 22 PB12 (io) "DAC0_OUT1#0/OPAMP_OUT1, LETIM0_OUT1#1, I2C1_SCL#1", 24 PB13 (io) "HFXTAL_P, US0_CLK#4/5, LEU0_TX#1", 25 PB14 (io) "HFXTAL_N, US0_CS#4/5, LEU0_RX#1", 28 PD0 (io) "ADC0_CH0, DAC0_OUT0ALT#4/OPAMP_OUT0ALT, DAC0_OUT2#1/OPAMP_OUT2, PCNT2_S0IN#0, US1_TX#1", 29 PD1 (io) "ADC0_CH1, DAC0_OUT1ALT#4/OPAMP_OUT1ALT, TIM0_CC0#3, PCNT2_S1IN#0, US1_RX#1, DBG_SWO#2", 30 PD2 (io) "ADC0_CH2, TIM0_CC1#3, US1_CLK#1, USB_DMPU#0, DBG_SWO#3", 31 PD3 (io) "ADC0_CH3, DAC0_N2#0/OPAMP_N2, TIM0_CC2#3, US1_CS#1, ETM_TD1#0/2", 32 PD4 (io) "ADC0_CH4, DAC0_P2#0/OPAMP_P2, LEU0_TX#0, ETM_TD2#0/2", 33 PD5 (io) "ADC0_CH5, DAC0_OUT2#0/OPAMP_OUT2, LEU0_RX#0, ETM_TD3#0/2", 34 PD6 (io) "ADC0_CH6, DAC0_P1#0/OPAMP_P1, TIM1_CC0#4, LETIM0_OUT0#0, PCNT0_S0IN#3, US1_RX#2, I2C0_SDA#1, LES_ALTEX0#0, ACMP0_O#2, ETM_TD0#0", 35 PD7 (io) "ADC0_CH7, DAC0_N1#0/OPAMP_N1, TIM1_CC1#4, LETIM0_OUT1#0, PCNT0_S1IN#3, US1_TX#2, I2C0_SCL#1, CMU_CLK0#2, LES_ALTEX1#0, ACMP1_O#2, ETM_TCLK#0", 36 PD8 (io) "BU_VIN, CMU_CLK1#1", 37 PC6 (io) "ACMP0_CH6, LEU1_TX#0, I2C0_SDA#2, LES_CH6#0, ETM_TCLK#2", 38 PC7 (io) "ACMP0_CH7, LEU1_RX#0, I2C0_SCL#2, LES_CH7#0, ETM_TD0#2", 40 DECOUPLE "Decouple output for on-chip voltage regulator. An external capacitance of size CDECOUPLE is required at this pin.", 41 PE4 (io) "LCD_COM0, US0_CS#1", 42 PE5 (io) "LCD_COM1, US0_CLK#1", 43 PE6 (io) "LCD_COM2, US0_RX#1", 44 PE7 (io) "LCD_COM3, US0_TX#1", 47 PF10 (io) "USB_DM#0", 48 PF11 (io) "USB_DP#0", 49 PF0 (io) "TIM0_CC0#5, LETIM0_OUT0#2, US1_CLK#2, LEU0_TX#3, I2C0_SDA#5, DBG_SWCLK#0/1/2/3", 50 PF1 (io) "TIM0_CC1#5, LETIM0_OUT1#2, US1_CS#2, LEU0_RX#3, I2C0_SCL#5, DBG_SWDIO#0/1/2/3, GPIO_EM4WU3", 51 PF2 (io) "LCD_SEG0, TIM0_CC2#5, LEU0_TX#4, ACMP1_O#0, DBG_SWO#0, GPIO_EM4WU4", 53 PF12 (io) "USB_ID#0", 54 PF5 (io) "LCD_SEG3, TIM0_CDTI2#2/5, USB_VBUSEN#0, PRS_CH2#1", 56 PE8 (io) "LCD_SEG4, PCNT2_S0IN#1, PRS_CH3#1", 57 PE9 (io) "LCD_SEG5, PCNT2_S1IN#1", 58 PE10 (io) "LCD_SEG6, TIM1_CC0#1, US0_TX#0, BOOTLOADER_TX", 59 PE11 (io) "LCD_SEG7, TIM1_CC1#1, US0_RX#0, LES_ALTEX5#0, BOOTLOADER_RX", 60 PE12 (io) "LCD_SEG8, TIM1_CC2#1, US0_RX#3, US0_CLK#0, I2C0_SDA#6, CMU_CLK1#2, LES_ALTEX6#0", 61 PE13 (io) "LCD_SEG9, US0_TX#3, US0_CS#0, I2C0_SCL#6, LES_ALTEX7#0, ACMP0_O#0, GPIO_EM4WU5", 62 PE14 (io) "LCD_SEG10, TIM3_CC0#0, LEU0_TX#2", 63 PE15 (io) "LCD_SEG11, TIM3_CC1#0, LEU0_RX#2", 64 PA15 (io) "LCD_SEG12, TIM3_CC2#0"
part B pins: 0 VSS (power) "Ground", 8 IOVDD_0 (power) "Digital IO power supply 0.", 23 AVDD_1 (power) "Analog power supply 1 .", 26 IOVDD_3 (power) "Digital IO power supply 3.", 27 AVDD_0 (power) "Analog power supply 0.", 39 VDD_DREG (power) "Power supply for on-chip voltage regulator", 45 USB_VREGI (power) "USB Input to internal 3.3 V regulator.", 46 USB_VREGO "USB Decoupling for internal 3.3 V USB regulator and regulator output.", 52 USB_VBUS (power) "USB 5.0 V VBUS input.", 55 IOVDD_5 (power) "Digital IO power supply 5."